# Altium integrated library Altera Cyclone III.IntLib: 225 symbols (part 45 of 48)

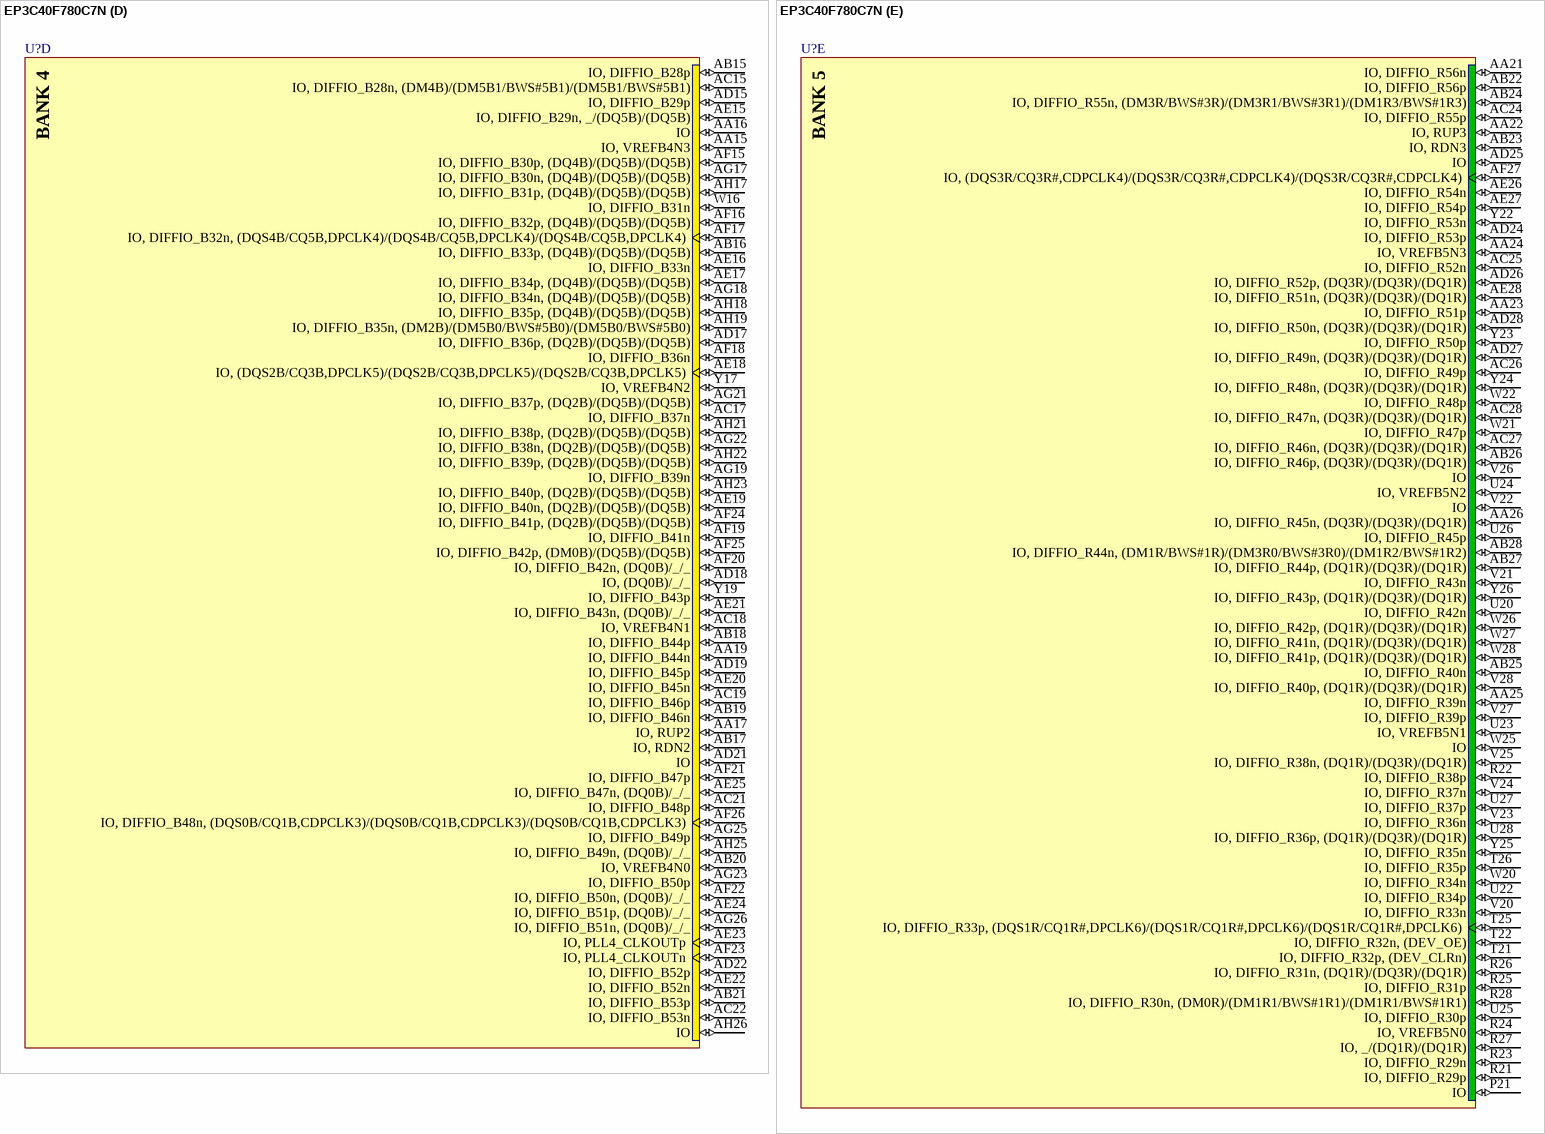
[diagram p221: symbol EP3C40F780C7N]

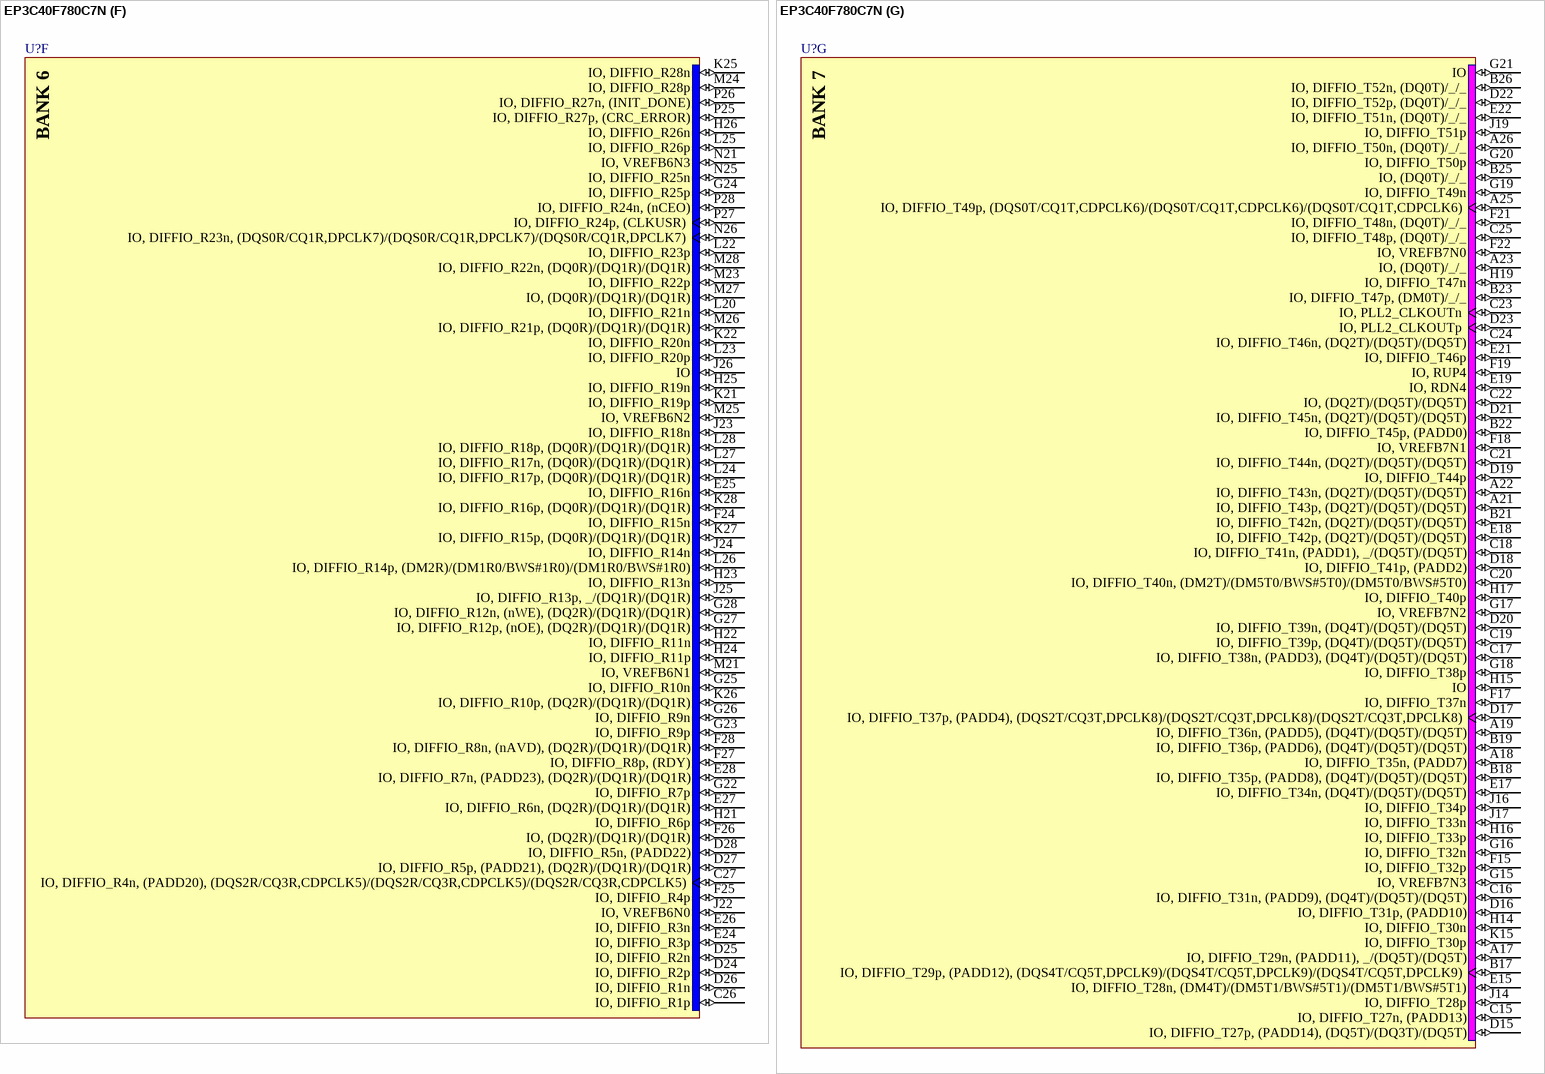
[diagram p222: symbol EP3C40F780C7N]

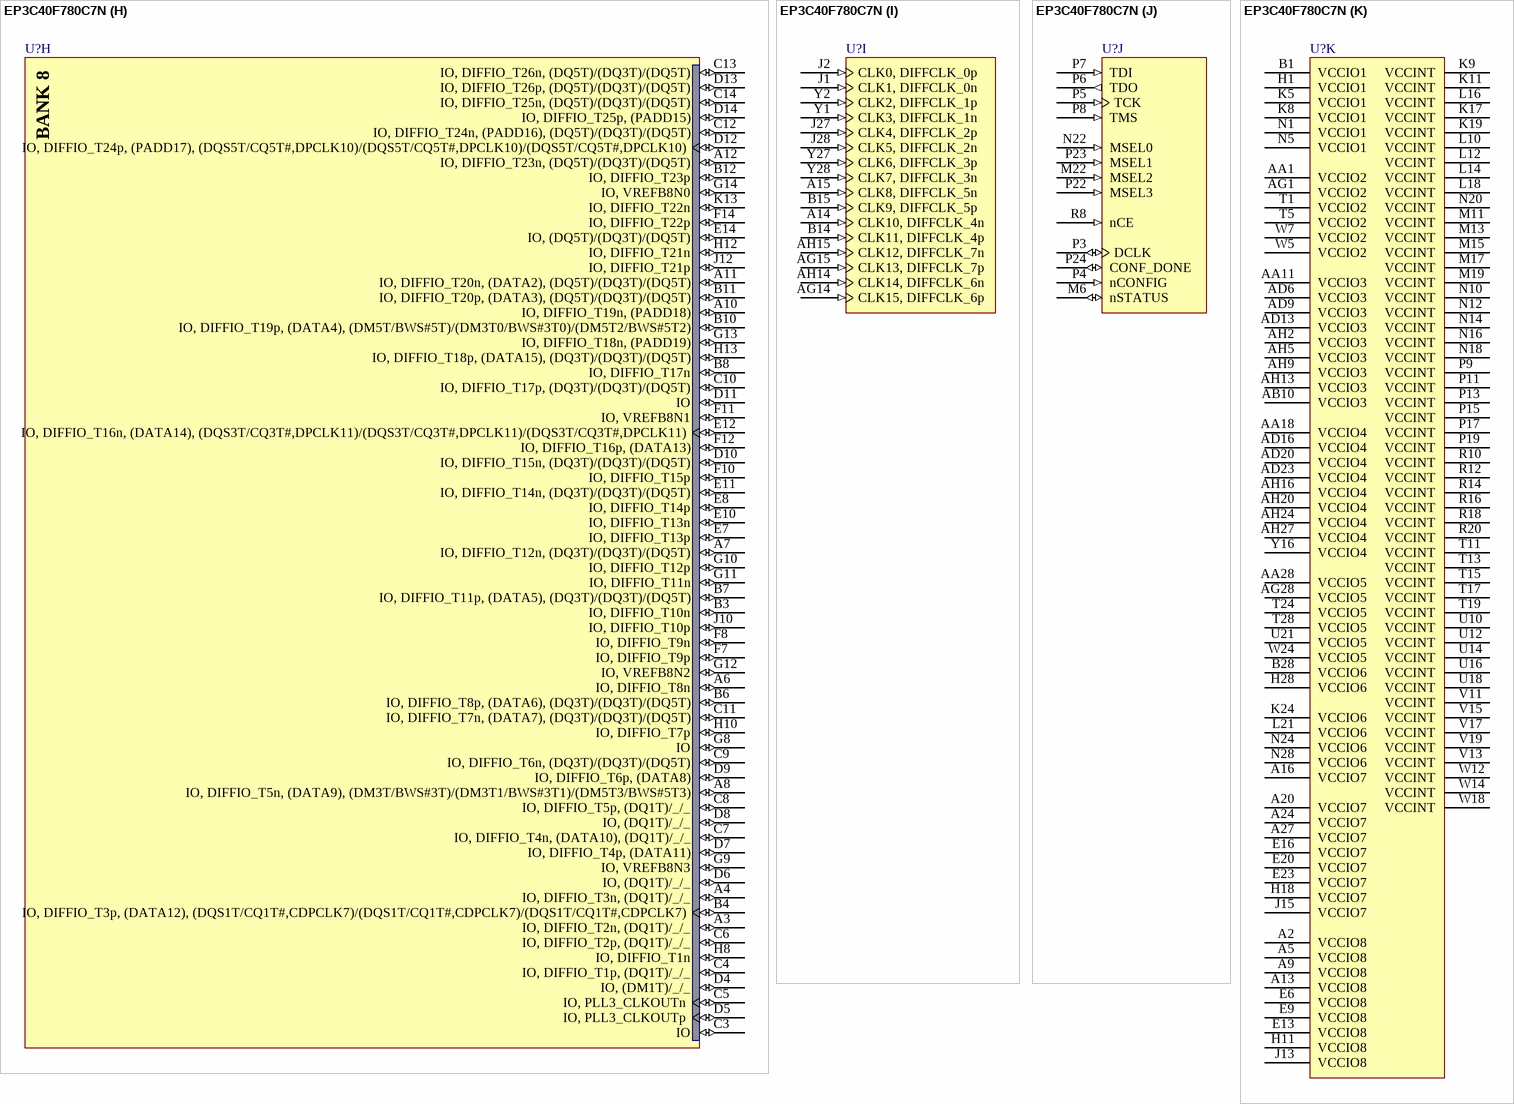
[diagram p223: symbol EP3C40F780C7N]

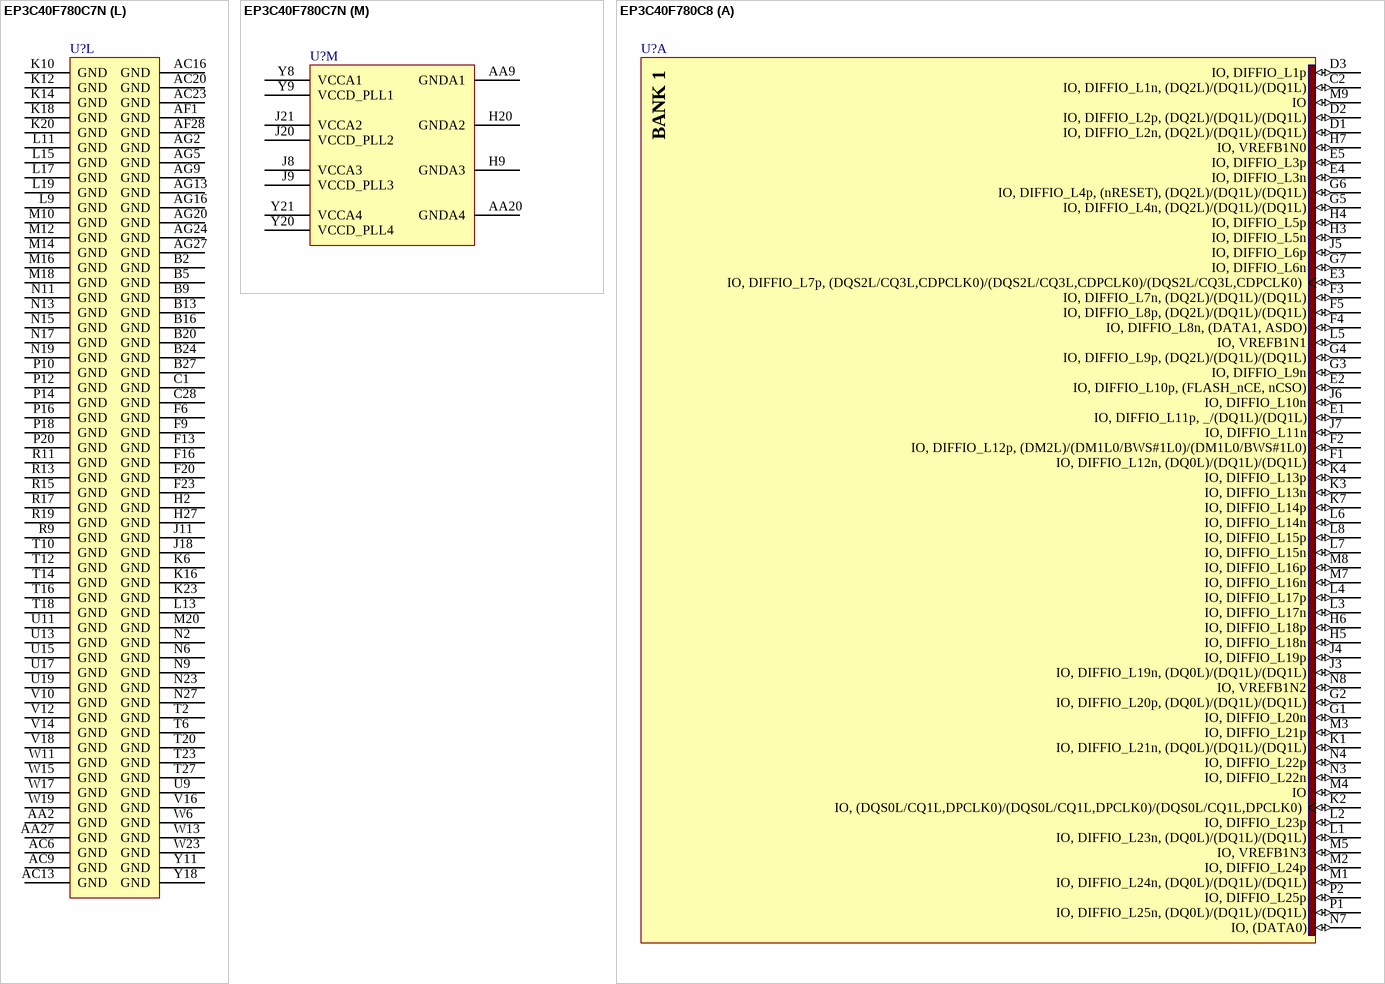
[diagram p224: symbols EP3C40F780C7N to EP3C40F780C8]